# EAGLE library part PIXHAWK2_MPU-6000 (library PX4FMUv2.4)
Invensense MPU-6000: 3-axis gyro, 3-axis accel & 9-axis MotionFusion The MPU-60X0 Motion Processing Unit (MPU?) is the world?s first motion processing solution with integrated 9-axis sensor fusion for handset and tablet applications, game controllers, motion pointer remote controls, and other consumer devices. The MPU-60X0 has an embedded 3-axis MEMS gyroscope, 3-axis MEMS accelerometer and Digital Motion Processor? (DMP) hardware accelerator engine with an auxiliary I 2 C port that interfaces to third party digital sensors, such as magnetometers. Interfacing with a 3-axis magnetometer delivers a complete 9-axis sensor fusion output to the MPU?s primary I 2 C or SPI port. (SPI is available on MPU-6000 only). This combines acceleration and rotational motion plus heading information into a single data stream for the application
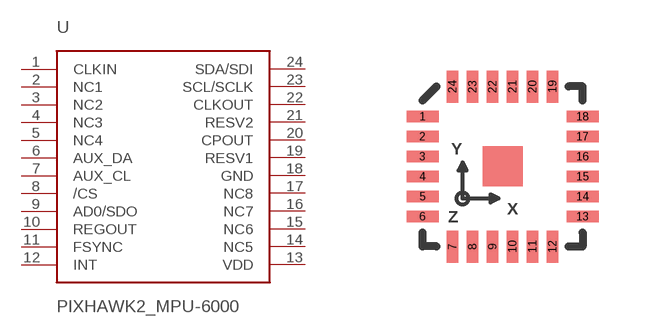
[diagram p19: symbol with the pads of PIXHAWK2_QFN-24; footprint PIXHAWK2_QFN-24]

Designator prefix -

## PIXHAWK2_MPU-6000 (DATASHEET: http://invensense.com/mems/gyro/documents/PS-MPU-6000A-00_v1.0.pdf; LINK: http://invensense.com/mems/gyro/mpu6000.html; MFGPN: MPU-6000)  [PIXHAWK2_QFN-24]
1  CLKIN
2  NC1
3  NC2
4  NC3
5  NC4
6  AUX_DA
7  AUX_CL
8  /CS
9  AD0/SDO
10  REGOUT
11  FSYNC
12  INT
13  VDD
14  NC5
15  NC6
16  NC7
17  NC8
18  GND
19  RESV1
20  CPOUT
21  RESV2
22  CLKOUT
23  SCL/SCLK
24  SDA/SDI

## Footprint PIXHAWK2_QFN-24 (pad centres in mm)
smd 0.8 x 0.29: 1 -2,1.25; 2 -2,0.75; 3 -2,0.25; 4 -2,-0.25; 5 -2,-0.75; 6 -2,-1.25; 13 2,-1.25; 14 2,-0.75; 15 2,-0.25; 16 2,0.25; 17 2,0.75; 18 2,1.25
smd 0.29 x 0.8: 7 -1.25,-2; 8 -0.75,-2; 9 -0.25,-2; 10 0.25,-2; 11 0.75,-2; 12 1.25,-2; 19 1.25,2; 20 0.75,2; 21 0.25,2; 22 -0.25,2; 23 -0.75,2; 24 -1.25,2